# Altium schematic symbol library 3vreg.SchLib: 11 symbols
Pins are listed as number, name and electrical type; pins without a type are passive.

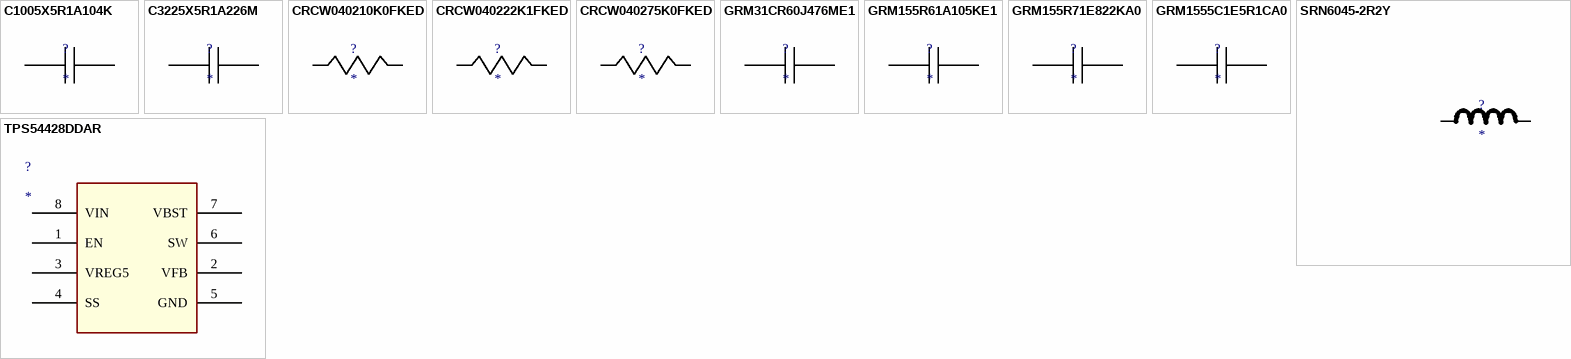
[diagram p0: symbols C1005X5R1A104K to TPS54428DDAR]

## C1005X5R1A104K
designator ?
Imported; Manufacturer_Part_Number: C1005X5R1A104K; Vendor: TDK; Manufacturer_Name: TDK; RefDes: RefDes; Type: DEV; Value: Value
footprint 0402
pins: 1, 2

## C3225X5R1A226M
designator ?
Imported; Manufacturer_Part_Number: C3225X5R1A226M; Vendor: TDK; Manufacturer_Name: TDK; RefDes: RefDes; Type: DEV; Value: Value
footprint 1210
pins: 1, 2

## CRCW040210K0FKED
designator ?
Imported; Manufacturer_Part_Number: CRCW040210K0FKED; Vendor: Vishay-Dale; Manufacturer_Name: Vishay-Dale; RefDes: RefDes; Type: DEV; Value: Value
footprint 0402
pins: 1, 2

## CRCW040222K1FKED
designator ?
Imported; Manufacturer_Part_Number: CRCW040222K1FKED; Vendor: Vishay-Dale; Manufacturer_Name: Vishay-Dale; RefDes: RefDes; Type: DEV; Value: Value
footprint 0402
pins: 1, 2

## CRCW040275K0FKED
designator ?
Imported; Manufacturer_Part_Number: CRCW040275K0FKED; Vendor: Vishay-Dale; Manufacturer_Name: Vishay-Dale; RefDes: RefDes; Type: DEV; Value: Value
footprint 0402
pins: 1, 2

## GRM31CR60J476ME1
designator ?
Imported; Manufacturer_Part_Number: GRM31CR60J476ME19L; Vendor: MuRata; Manufacturer_Name: MuRata; RefDes: RefDes; Type: DEV; Value: Value
footprint 1206
pins: 1, 2

## GRM155R61A105KE1
designator ?
Imported; Manufacturer_Part_Number: GRM155R61A105KE15D; Vendor: MuRata; Manufacturer_Name: MuRata; RefDes: RefDes; Type: DEV; Value: Value
footprint 0402
pins: 1, 2

## GRM155R71E822KA0
designator ?
Imported; Manufacturer_Part_Number: GRM155R71E822KA01D; Vendor: MuRata; Manufacturer_Name: MuRata; RefDes: RefDes; Type: DEV; Value: Value
footprint 0402
pins: 1, 2

## GRM1555C1E5R1CA0
designator ?
Imported; Manufacturer_Part_Number: GRM1555C1E5R1CA01D; Vendor: MuRata; Manufacturer_Name: MuRata; RefDes: RefDes; Type: DEV; Value: Value
footprint 0402
pins: 1, 2

## SRN6045-2R2Y
designator ?
Imported; Manufacturer_Part_Number: SRN6045-2R2Y; Vendor: Bourns; Datasheet URL: http://www.bourns.com/data/global/pdfs/SRN6045.pdf; Manufacturer_Name: Bourns; RefDes: RefDes; Type: DEV; Value: Value
footprint SRN6045
pins: 1, 2

## TPS54428DDAR
designator ?
Imported; Frequency: 700000.0; Imax: 4.0; Mktg_Package: R-PDSO-G8; NSID: TPS54428DDAR; Vendor: Texas Instruments; Datasheet URL: http://www.ti.com/product/tps54428; Package: R-PDSO-G8; Manufacturer_Part_Number: TPS54428DDAR; Manufacturer_Name: Texas Instruments; RefDes: RefDes; Type: DEV; Value: Value
footprint R-PDSO-G8
pins: 1 EN, 2 VFB, 3 VREG5, 4 SS, 5 GND, 6 SW, 7 VBST, 8 VIN